# Altium footprint library 2.02-SSOP&MSOP封装.PcbLib: 28 footprints (part 2 of 2)
Each footprint in its own frame and in the unit in brackets; x right, y up, seen from the top. Pads: shape width x height; smd on the part's side, far side on the other; paste and mask are expansions set on the pad; w line width, h text height; cw(c..) or ccw(c..) is an arc to the next point about the centre after c.
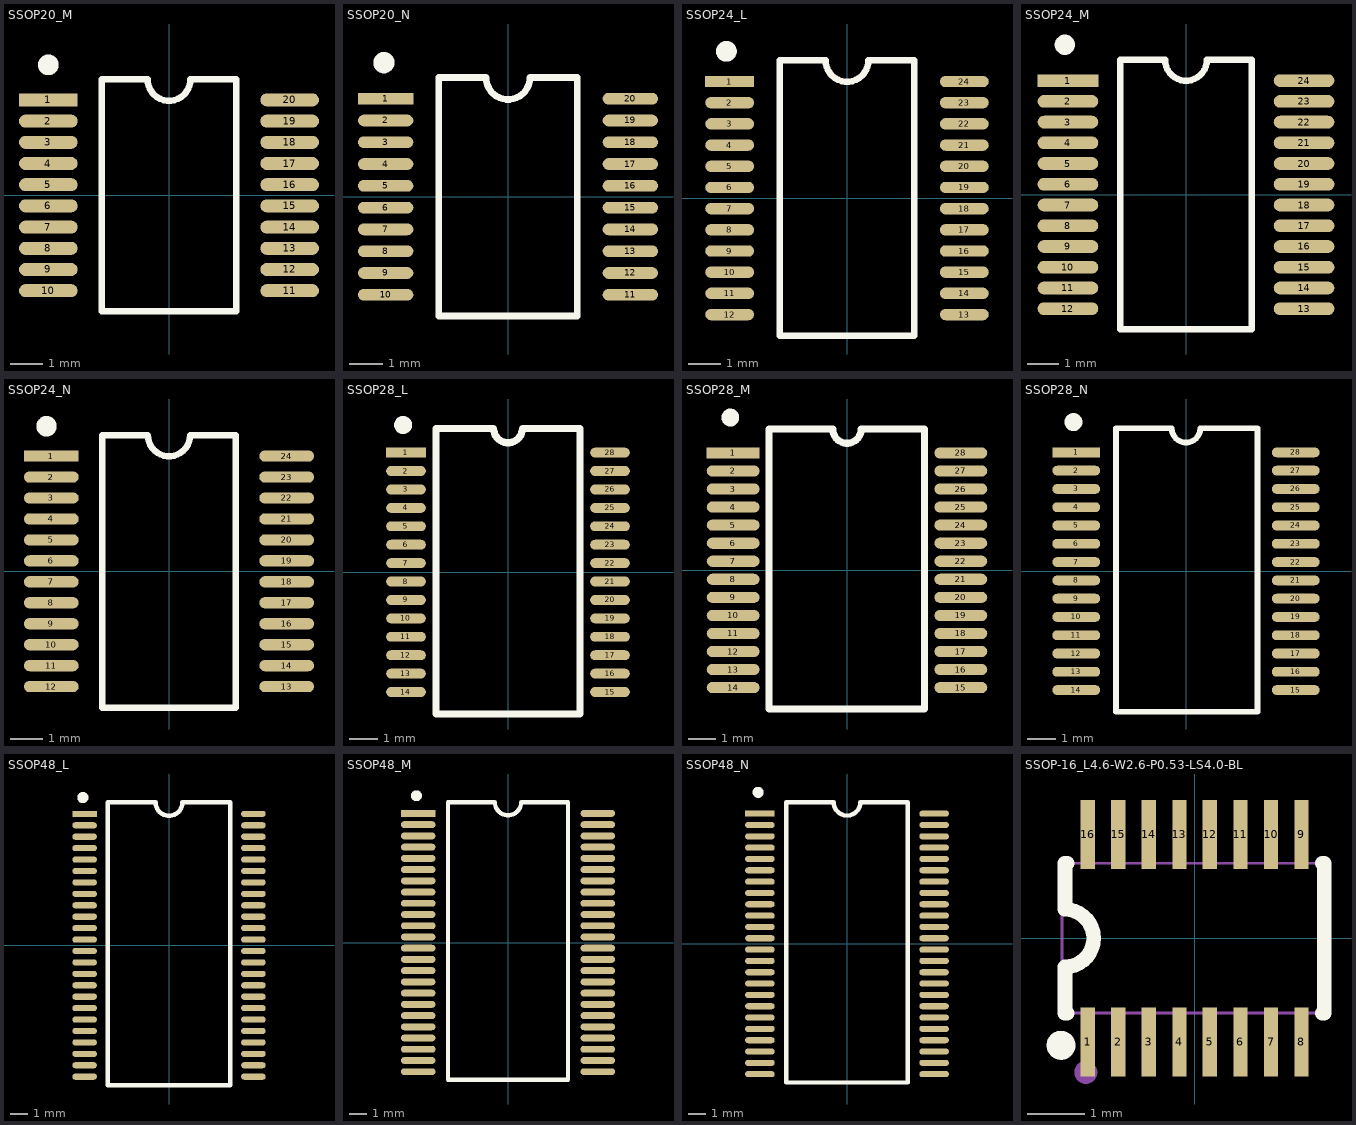
[diagram p1: the footprints below, top view; thin cyan lines are the x and y axes]

## SSOP20_M [mm] "7.2*7.8*1.6（长宽高）"
pads (20):
  rect 1.8x0.4 smd: 1(-3.7,2.925)
  oval 1.8x0.4 smd: 2(-3.7,2.275) 3(-3.7,1.625) 4(-3.7,0.975) 5(-3.7,0.325) 6(-3.7,-0.325) 7(-3.7,-0.975) 8(-3.7,-1.625) 9(-3.7,-2.275) 10(-3.7,-2.925) 11(3.7,-2.925) 12(3.7,-2.275) 13(3.7,-1.625) 14(3.7,-0.975) 15(3.7,-0.325) 16(3.7,0.325) 17(3.7,0.975) 18(3.7,1.625) 19(3.7,2.275) 20(3.7,2.925)
Top Overlay:
  circle w0.381: c-3.7,4 r0.127
  lines w0.2: -2.065,-3.556 -2.065,3.556 -0.655,3.556 ccw(c0,3.556) 0.655,3.556 2.065,3.556 2.065,-3.556 -2.065,-3.556
3D body "SSOP20.STEP": height 1.65, standoff -0.03, extent -3.852,-3.6 3.852,3.6

## SSOP20_N [mm] "7.2*7.8*1.6（长宽高）"
pads (20):
  rect 1.65x0.35 smd: 1(-3.65,2.925)
  oval 1.65x0.35 smd: 2(-3.65,2.275) 3(-3.65,1.625) 4(-3.65,0.975) 5(-3.65,0.325) 6(-3.65,-0.325) 7(-3.65,-0.975) 8(-3.65,-1.625) 9(-3.65,-2.275) 10(-3.65,-2.925) 11(3.65,-2.925) 12(3.65,-2.275) 13(3.65,-1.625) 14(3.65,-0.975) 15(3.65,-0.325) 16(3.65,0.325) 17(3.65,0.975) 18(3.65,1.625) 19(3.65,2.275) 20(3.65,2.925)
Top Overlay:
  circle w0.381: c-3.7,4 r0.127
  lines w0.2: -2.065,-3.556 -2.065,3.556 -0.655,3.556 ccw(c0,3.556) 0.655,3.556 2.065,3.556 2.065,-3.556 -2.065,-3.556
3D body "SSOP20.STEP": height 1.65, standoff -0.03, extent -3.852,-3.6 3.852,3.6

## SSOP24_L [mm] "8.3*7.8*1.6（长宽高）"
pads (24):
  rect 1.5x0.35 smd: 1(-3.6,3.575)
  oval 1.5x0.35 smd: 2(-3.6,2.925) 3(-3.6,2.275) 4(-3.6,1.625) 5(-3.6,0.975) 6(-3.6,0.325) 7(-3.6,-0.325) 8(-3.6,-0.975) 9(-3.6,-1.625) 10(-3.6,-2.275) 11(-3.6,-2.925) 12(-3.6,-3.575) 13(3.6,-3.575) 14(3.6,-2.925) 15(3.6,-2.275) 16(3.6,-1.625) 17(3.6,-0.975) 18(3.6,-0.325) 19(3.6,0.325) 20(3.6,0.975) 21(3.6,1.625) 22(3.6,2.275) 23(3.6,2.925) 24(3.6,3.575)
Top Overlay:
  circle w0.381: c-3.7,4.5 r0.127
  lines w0.2: -2.065,-4.225 2.065,-4.225 2.065,4.225 0.655,4.225 cw(c0,4.225) -0.655,4.225 -2.065,4.225 -2.065,-4.225
3D body "SSOP24.STEP": height 1.65, standoff -0.03, extent -3.852,-4.15 3.852,4.15

## SSOP24_M [mm] "8.3*7.8*1.6（长宽高）"
pads (24):
  rect 1.9x0.4 smd: 1(-3.7,3.575)
  oval 1.9x0.4 smd: 2(-3.7,2.925) 3(-3.7,2.275) 4(-3.7,1.625) 5(-3.7,0.975) 6(-3.7,0.325) 7(-3.7,-0.325) 8(-3.7,-0.975) 9(-3.7,-1.625) 10(-3.7,-2.275) 11(-3.7,-2.925) 12(-3.7,-3.575) 13(3.7,-3.575) 14(3.7,-2.925) 15(3.7,-2.275) 16(3.7,-1.625) 17(3.7,-0.975) 18(3.7,-0.325) 19(3.7,0.325) 20(3.7,0.975) 21(3.7,1.625) 22(3.7,2.275) 23(3.7,2.925) 24(3.7,3.575)
Top Overlay:
  circle w0.381: c-3.8,4.7 r0.127
  lines w0.2: -2.065,-4.225 2.065,-4.225 2.065,4.225 0.655,4.225 cw(c0,4.225) -0.655,4.225 -2.065,4.225 -2.065,-4.225
3D body "SSOP24.STEP": height 1.65, standoff -0.03, extent -3.852,-4.15 3.852,4.15

## SSOP24_N [mm] "8.3*7.8*1.6（长宽高）"
pads (24):
  rect 1.7x0.35 smd: 1(-3.65,3.575)
  oval 1.7x0.35 smd: 2(-3.65,2.925) 3(-3.65,2.275) 4(-3.65,1.625) 5(-3.65,0.975) 6(-3.65,0.325) 7(-3.65,-0.325) 8(-3.65,-0.975) 9(-3.65,-1.625) 10(-3.65,-2.275) 11(-3.65,-2.925) 12(-3.65,-3.575) 13(3.65,-3.575) 14(3.65,-2.925) 15(3.65,-2.275) 16(3.65,-1.625) 17(3.65,-0.975) 18(3.65,-0.325) 19(3.65,0.325) 20(3.65,0.975) 21(3.65,1.625) 22(3.65,2.275) 23(3.65,2.925) 24(3.65,3.575)
Top Overlay:
  circle w0.381: c-3.8,4.5 r0.127
  lines w0.2: -2.065,-4.225 2.065,-4.225 2.065,4.225 0.655,4.225 cw(c0,4.225) -0.655,4.225 -2.065,4.225 -2.065,-4.225
3D body "SSOP24.STEP": height 1.65, standoff -0.03, extent -3.852,-4.15 3.852,4.15

## SSOP28_L [mm] "10.2*7.8*1.9mm(长宽高）"
pads (28):
  rect 1.4x0.35 smd: 1(-3.6,4.225)
  oval 1.4x0.35 smd: 2(-3.6,3.575) 3(-3.6,2.925) 4(-3.6,2.275) 5(-3.6,1.625) 6(-3.6,0.975) 7(-3.6,0.325) 8(-3.6,-0.325) 9(-3.6,-0.975) 10(-3.6,-1.625) 11(-3.6,-2.275) 12(-3.6,-2.925) 13(-3.6,-3.575) 14(-3.6,-4.225) 15(3.6,-4.225) 16(3.6,-3.575) 17(3.6,-2.925) 18(3.6,-2.275) 19(3.6,-1.625) 20(3.6,-0.975) 21(3.6,-0.325) 22(3.6,0.325) 23(3.6,0.975) 24(3.6,1.625) 25(3.6,2.275) 26(3.6,2.925) 27(3.6,3.575) 28(3.6,4.225)
Top Overlay:
  circle w0.381: c-3.7,5.2 r0.127
  lines w0.254: -2.54,-5 2.54,-5 2.54,5.08 0.508,5.08 cw(c0,5.08) -0.508,5.08 -2.54,5.08 -2.54,-5
3D body "SSOP28.STEP": height 1.65, standoff -0.03, extent -3.852,-5.1 3.852,5.1

## SSOP28_M [mm] "10.2*7.8*1.9mm(长宽高）"
pads (28):
  rect 1.9x0.4 smd: 1(-4.1,4.225)
  oval 1.9x0.4 smd: 2(-4.1,3.575) 3(-4.1,2.925) 4(-4.1,2.275) 5(-4.1,1.625) 6(-4.1,0.975) 7(-4.1,0.325) 8(-4.1,-0.325) 9(-4.1,-0.975) 10(-4.1,-1.625) 11(-4.1,-2.275) 12(-4.1,-2.925) 13(-4.1,-3.575) 14(-4.1,-4.225) 15(4.1,-4.225) 16(4.1,-3.575) 17(4.1,-2.925) 18(4.1,-2.275) 19(4.1,-1.625) 20(4.1,-0.975) 21(4.1,-0.325) 22(4.1,0.325) 23(4.1,0.975) 24(4.1,1.625) 25(4.1,2.275) 26(4.1,2.925) 27(4.1,3.575) 28(4.1,4.225)
Top Overlay:
  circle w0.381: c-4.2,5.5 r0.127
  lines w0.254: -2.804,-5 -2.804,5.08 -0.508,5.08 ccw(c0,5.08) 0.508,5.08 2.796,5.08 2.796,-5 -2.804,-5
3D body "SSOP28.STEP": height 1.65, standoff -0.03, extent -3.852,-5.1 3.852,5.1

## SSOP28_N [mm] "10.2*7.8*1.9mm(长宽高）"
pads (28):
  rect 1.7x0.35 smd: 1(-3.9,4.225)
  oval 1.7x0.35 smd: 2(-3.9,3.575) 3(-3.9,2.925) 4(-3.9,2.275) 5(-3.9,1.625) 6(-3.9,0.975) 7(-3.9,0.325) 8(-3.9,-0.325) 9(-3.9,-0.975) 10(-3.9,-1.625) 11(-3.9,-2.275) 12(-3.9,-2.925) 13(-3.9,-3.575) 14(-3.9,-4.225) 15(3.9,-4.225) 16(3.9,-3.575) 17(3.9,-2.925) 18(3.9,-2.275) 19(3.9,-1.625) 20(3.9,-0.975) 21(3.9,-0.325) 22(3.9,0.325) 23(3.9,0.975) 24(3.9,1.625) 25(3.9,2.275) 26(3.9,2.925) 27(3.9,3.575) 28(3.9,4.225)
Top Overlay:
  circle w0.381: c-4,5.3 r0.127
  lines w0.203: -2.489,-5 2.54,-5 2.54,5.08 0.508,5.08 cw(c0,5.08) -0.508,5.08 -2.489,5.08 -2.489,-5
3D body "SSOP28.STEP": height 1.65, standoff -0.03, extent -3.852,-5.1 3.852,5.1

## SSOP48_L [mm] "16*10.3*2.4mm（长宽高）        淘宝ID:黄晶宝石"
pads (48):
  rect 1.4x0.35 smd: 1(-4.8,7.475)
  oval 1.4x0.35 smd: 2(-4.8,6.825) 3(-4.8,6.175) 4(-4.8,5.525) 5(-4.8,4.875) 6(-4.8,4.225) 7(-4.8,3.575) 8(-4.8,2.925) 9(-4.8,2.275) 10(-4.8,1.625) 11(-4.8,0.975) 12(-4.8,0.325) 13(-4.8,-0.325) 14(-4.8,-0.975) 15(-4.8,-1.625) 16(-4.8,-2.275) 17(-4.8,-2.925) 18(-4.8,-3.575) 19(-4.8,-4.225) 20(-4.8,-4.875) 21(-4.8,-5.525) 22(-4.8,-6.175) 23(-4.8,-6.825) 24(-4.8,-7.475) 25(4.8,-7.475) 26(4.8,-6.825) 27(4.8,-6.175) 28(4.8,-5.525) 29(4.8,-4.875) 30(4.8,-4.225) 31(4.8,-3.575) 32(4.8,-2.925) 33(4.8,-2.275) 34(4.8,-1.625) 35(4.8,-0.975) 36(4.8,-0.325) 37(4.8,0.325) 38(4.8,0.975) 39(4.8,1.625) 40(4.8,2.275) 41(4.8,2.925) 42(4.8,3.575) 43(4.8,4.225) 44(4.8,4.875) 45(4.8,5.525) 46(4.8,6.175) 47(4.8,6.825) 48(4.8,7.475)
Top Overlay:
  circle w0.381: c-4.9,8.4 r0.127
  lines w0.254: -3.475,-7.95 3.475,-7.95 3.475,8.128 0.762,8.128 cw(c0,8.128) -0.762,8.128 -3.475,8.128 -3.475,-7.95
3D body "SSOP48.STEP": height 2.45, standoff -0.03, extent -5.002,-8 5.002,8

## SSOP48_M [mm] "16*10.3*2.4mm（长宽高）        淘宝ID:黄晶宝石"
pads (48):
  rect 2x0.4 smd: 1(-5.2,7.475)
  oval 2x0.4 smd: 2(-5.2,6.825) 3(-5.2,6.175) 4(-5.2,5.525) 5(-5.2,4.875) 6(-5.2,4.225) 7(-5.2,3.575) 8(-5.2,2.925) 9(-5.2,2.275) 10(-5.2,1.625) 11(-5.2,0.975) 12(-5.2,0.325) 13(-5.2,-0.325) 14(-5.2,-0.975) 15(-5.2,-1.625) 16(-5.2,-2.275) 17(-5.2,-2.925) 18(-5.2,-3.575) 19(-5.2,-4.225) 20(-5.2,-4.875) 21(-5.2,-5.525) 22(-5.2,-6.175) 23(-5.2,-6.825) 24(-5.2,-7.475) 25(5.2,-7.475) 26(5.2,-6.825) 27(5.2,-6.175) 28(5.2,-5.525) 29(5.2,-4.875) 30(5.2,-4.225) 31(5.2,-3.575) 32(5.2,-2.925) 33(5.2,-2.275) 34(5.2,-1.625) 35(5.2,-0.975) 36(5.2,-0.325) 37(5.2,0.325) 38(5.2,0.975) 39(5.2,1.625) 40(5.2,2.275) 41(5.2,2.925) 42(5.2,3.575) 43(5.2,4.225) 44(5.2,4.875) 45(5.2,5.525) 46(5.2,6.175) 47(5.2,6.825) 48(5.2,7.475)
Top Overlay:
  circle w0.381: c-5.3,8.5 r0.127
  lines w0.254: -3.475,-7.95 -3.475,8.128 -0.762,8.128 ccw(c0,8.128) 0.762,8.128 3.475,8.128 3.475,-7.95 -3.475,-7.95
3D body "SSOP48.STEP": height 2.45, standoff -0.03, extent -5.002,-8 5.002,8

## SSOP48_N [mm] "16*10.3*2.4mm（长宽高）        淘宝ID:黄晶宝石"
pads (48):
  rect 1.7x0.35 smd: 1(-5,7.475)
  oval 1.7x0.35 smd: 2(-5,6.825) 3(-5,6.175) 4(-5,5.525) 5(-5,4.875) 6(-5,4.225) 7(-5,3.575) 8(-5,2.925) 9(-5,2.275) 10(-5,1.625) 11(-5,0.975) 12(-5,0.325) 13(-5,-0.325) 14(-5,-0.975) 15(-5,-1.625) 16(-5,-2.275) 17(-5,-2.925) 18(-5,-3.575) 19(-5,-4.225) 20(-5,-4.875) 21(-5,-5.525) 22(-5,-6.175) 23(-5,-6.825) 24(-5,-7.475) 25(5,-7.475) 26(5,-6.825) 27(5,-6.175) 28(5,-5.525) 29(5,-4.875) 30(5,-4.225) 31(5,-3.575) 32(5,-2.925) 33(5,-2.275) 34(5,-1.625) 35(5,-0.975) 36(5,-0.325) 37(5,0.325) 38(5,0.975) 39(5,1.625) 40(5,2.275) 41(5,2.925) 42(5,3.575) 43(5,4.225) 44(5,4.875) 45(5,5.525) 46(5,6.175) 47(5,6.825) 48(5,7.475)
Top Overlay:
  circle w0.381: c-5.1,8.7 r0.127
  lines w0.254: -3.475,-7.95 -3.475,8.128 -0.762,8.128 ccw(c0,8.128) 0.762,8.128 3.475,8.128 3.475,-7.95 -3.475,-7.95
3D body "SSOP48.STEP": height 2.45, standoff -0.03, extent -5.002,-8 5.002,8

## SSOP-16_L4.6-W2.6-P0.53-LS4.0-BL [mil]
pads (16):
  rect 9.8x47.2 smd mask+1.97: 1(-73,-70.9) 2(-52.2,-70.9) 3(-31.3,-70.9) 4(-10.4,-70.9) 5(10.4,-70.9) 6(31.3,-70.9) 7(52.2,-70.9) 8(73,-70.9) 9(73,70.9) 10(52.2,70.9) 11(31.3,70.9) 12(10.4,70.9) 13(-10.4,70.9) 14(-31.3,70.9) 15(-52.2,70.9) 16(-73,70.9)
Top Overlay:
  circle w10: c-91.3,-73.2 r4.9
  lines w10: -87.1,-51.2 -88.6,-51.2 -88.6,-19.7 ccw(c-88.73,0.01) -88.6,19.7 -88.6,51.2 -87.1,51.2 ; 87.1,-51.2 88.6,-51.2 88.6,51.2 87.1,51.2
Mechanical 6:
  circle w7.9: c-74.4,-91.7 r3.9
Mechanical 15:
  drawing of 37 lines, arcs and shapes, not listed
3D body "3D_PCB1_2022-09-05111.step": height 41.38, standoff 0, extent -90.55,-78.74 90.55,78.74